# Altium footprint library jst-pa.PcbLib: 3 footprints
Each footprint in its own frame and in the unit in brackets; x right, y up, seen from the top. Pads: shape width x height; smd on the part's side, far side on the other; paste and mask are expansions set on the pad; w line width, h text height; cw(c..) or ccw(c..) is an arc to the next point about the centre after c.
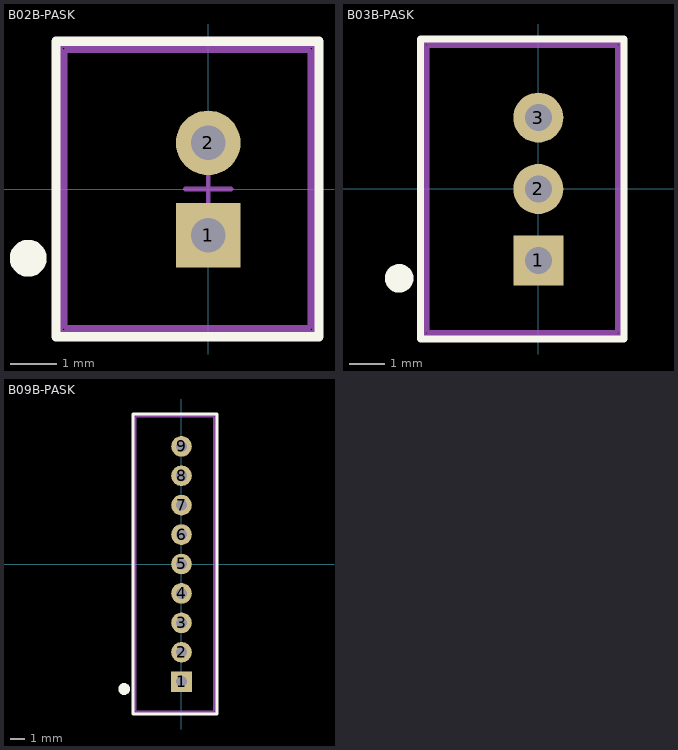
[diagram p0: the footprints below, top view; thin cyan lines are the x and y axes]

## B02B-PASK [mm] "2 pos, 2.0mm Wire to Board Connector"
height 4.7
pads (2):
  rect 1.4x1.4 hole 0.75: 1(0,-1)
  round 1.4 hole 0.75: 2(0,1)
Top Overlay:
  circle w0.4: c-3.9,-1.5 r0.2
  lines w0.2: -3.3,-3.2 -3.3,3.2 2.4,3.2 2.4,-3.2 -3.3,-3.2
Mechanical 13:
  lines w0.1: -0.5,0 0.5,0 ; 0,-0.5 0,0.5 ; -3.1,-3 -3.1,3 2.2,3 2.2,-3 -3.1,-3
Mechanical 15:
  lines w0.1: -3.2,-3.1 2.3,-3.1 2.3,3.1 -3.2,3.1 -3.2,-3.1
  text ".Designator" at 1.875,-1.775 h0.8
3D body: height 7.72, standoff -2.98, extent -3.1,-3 2.2,3

## B03B-PASK [mm] "3 pos, 2.0mm Wire to Board Connector"
height 4.7
pads (3):
  rect 1.4x1.4 hole 0.75: 1(0,-2)
  round 1.4 hole 0.75: 2(0,0) 3(0,2)
Top Overlay:
  circle w0.4: c-3.9,-2.5 r0.2
  lines w0.2: -3.3,-4.2 -3.3,4.2 2.4,4.2 2.4,-4.2 -3.3,-4.2
Mechanical 13:
  lines w0.1: -0.5,0 0.5,0 ; 0,-0.5 0,0.5 ; -3.1,-4 -3.1,4 2.2,4 2.2,-4 -3.1,-4
Mechanical 15:
  lines w0.1: -3.2,-4.1 2.3,-4.1 2.3,4.1 -3.2,4.1 -3.2,-4.1
  text ".Designator" at 1.875,-2.775 h0.8
3D body: height 7.72, standoff -2.98, extent -3.1,-4 2.2,4

## B09B-PASK [mm] "9 pos, 2.0mm Wire to Board Connector"
height 4.7
pads (9):
  rect 1.4x1.4 hole 0.75: 1(0,-8)
  round 1.4 hole 0.75: 2(0,-6) 3(0,-4) 4(0,-2) 5(0,0) 6(0,2) 7(0,4) 8(0,6) 9(0,8)
Top Overlay:
  circle w0.4: c-3.9,-8.5 r0.2
  lines w0.2: -3.3,-10.2 2.4,-10.2 2.4,10.2 -3.3,10.2 -3.3,-10.2
Mechanical 13:
  lines w0.1: -0.5,0 0.5,0 ; 0,-0.5 0,0.5 ; -3.1,-10 2.2,-10 2.2,10 -3.1,10 -3.1,-10
Mechanical 15:
  lines w0.1: -3.2,-10.1 -3.2,10.1 2.3,10.1 2.3,-10.1 -3.2,-10.1
  text ".Designator" at 1.875,-8.775 h0.8
3D body: height 7.72, standoff -2.98, extent -3.1,-10 2.2,10